# Altium footprint library PcbLib1.PcbLib: 18 footprints (part 1 of 2)
Each footprint in its own frame and in the unit in brackets; x right, y up, seen from the top. Pads: shape width x height; smd on the part's side, far side on the other; paste and mask are expansions set on the pad; w line width, h text height; cw(c..) or ccw(c..) is an arc to the next point about the centre after c.
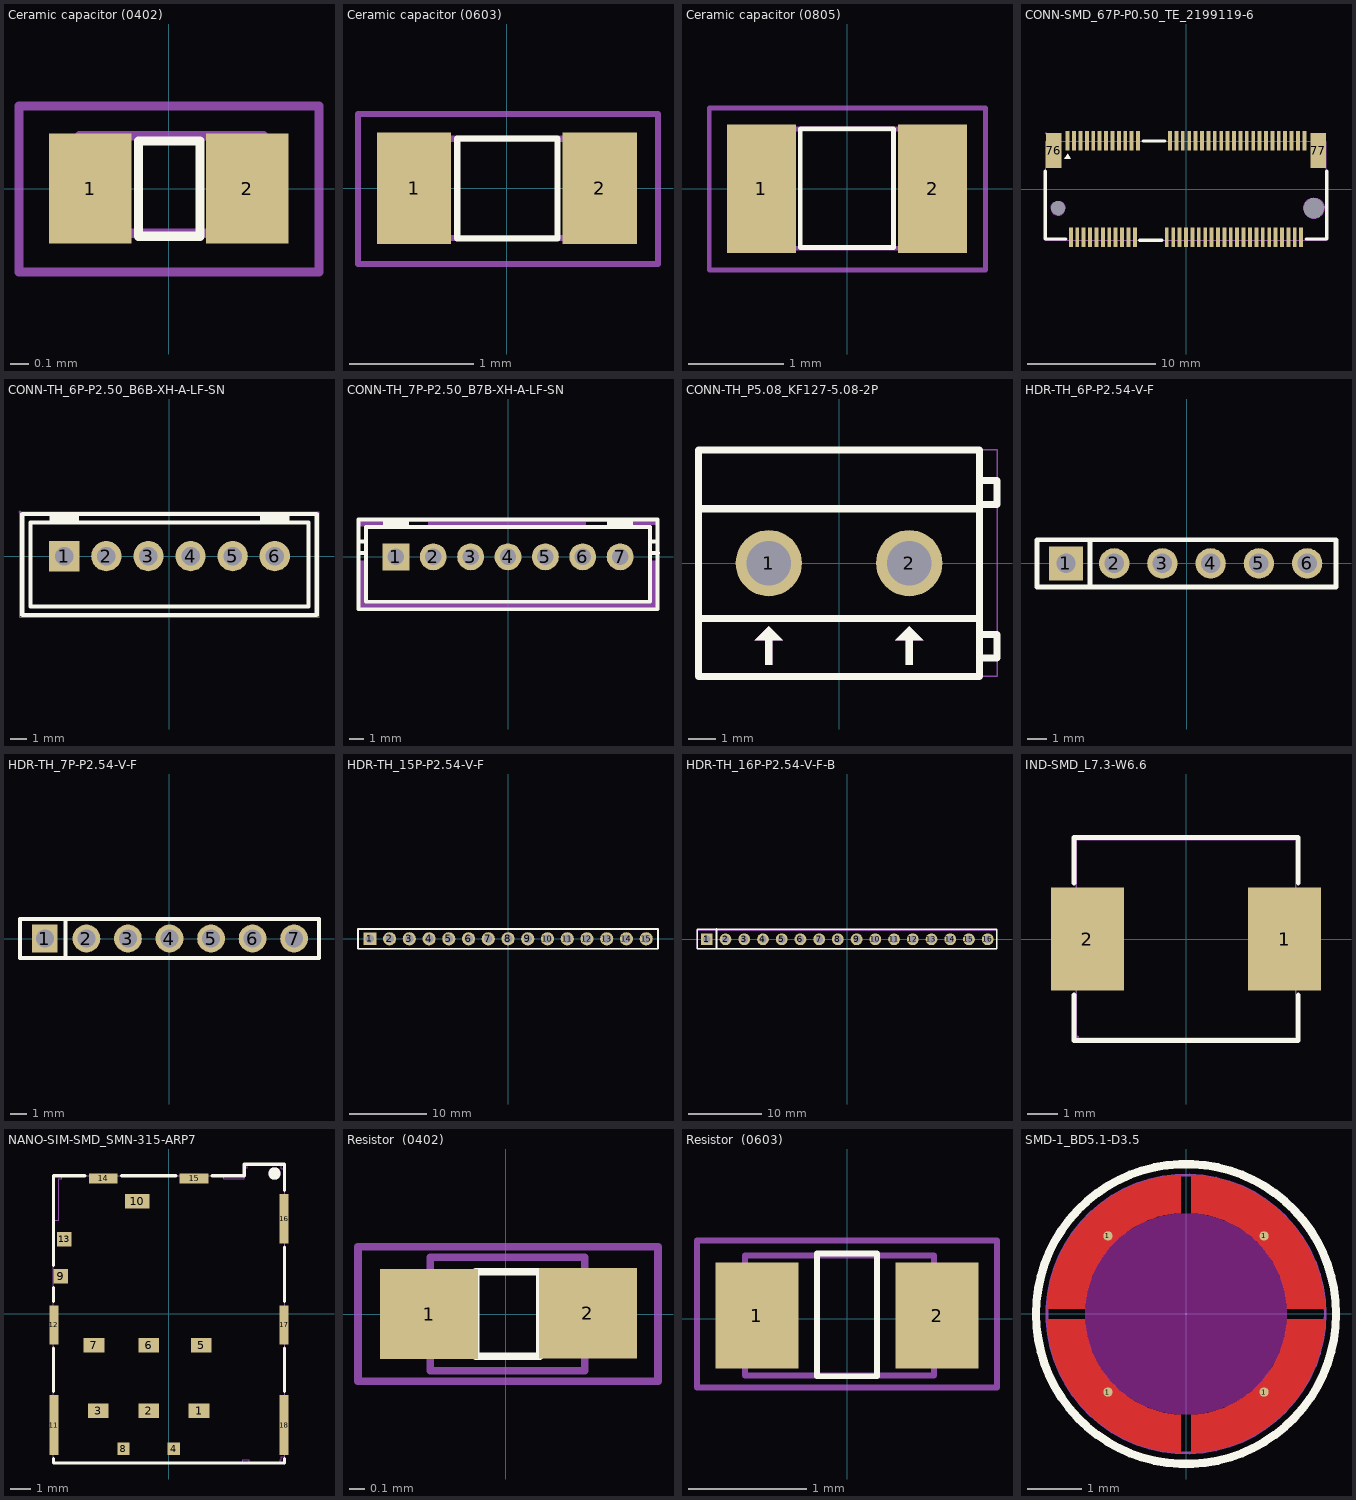
[diagram p0: the footprints below, top view; thin cyan lines are the x and y axes]

## Ceramic capacitor (0402) [mm]
height 9.45
pads (2):
  rect 0.45x0.6 smd: 1(-0.43,0) 2(0.43,0)
Top Overlay:
  lines w0.05: -0.165,-0.261 0.171,-0.261 0.171,0.261 -0.165,0.261 -0.165,-0.261
Mechanical 13:
  lines w0.05: -0.488,-0.245 -0.488,0.289 0.518,0.289 0.518,-0.245 -0.488,-0.245
Mechanical 15:
  lines w0.05: -0.819,-0.457 0.822,-0.457 0.822,0.452 -0.819,0.452 -0.819,-0.457
3D body "csmd-0402_l1_w0-5_h0-56.stp": height 0.56, standoff 0, extent -0.498,-0.247 0.502,0.253

## Ceramic capacitor (0603) [mm]
pads (2):
  rect 0.6x0.9 smd: 1(-0.75,0) 2(0.75,0)
Top Overlay:
  lines w0.05: -0.401,-0.403 0.408,-0.403 0.408,0.402 -0.401,0.402 -0.401,-0.403
Mechanical 13:
  lines w0.05: -0.8,-0.4 0.8,-0.4 0.8,0.4 -0.8,0.4 -0.8,-0.4
Mechanical 15:
  lines w0.05: -1.202,-0.609 -1.202,0.599 1.219,0.599 1.219,-0.609 -1.202,-0.609
3D body "csmd-0603_l1-6_w0-8_h0-8.stp": height 0.8, standoff 0, extent -0.8,-0.402 0.8,0.398

## Ceramic capacitor (0805) [mm]
pads (2):
  rect 0.725x1.35 smd: 1(-0.9,0) 2(0.9,0)
Top Overlay:
  lines w0.05: -0.49,-0.619 0.487,-0.619 0.487,0.629 -0.49,0.629 -0.49,-0.619
Mechanical 13:
  lines w0.05: -1,-0.625 1,-0.625 1,0.625 -1,0.625 -1,-0.625
Mechanical 15:
  lines w0.05: -1.445,-0.855 1.454,-0.855 1.454,0.848 -1.445,0.848 -1.445,-0.855
3D body "csmd-0805_l2_w1-25_h0-85.stp": height 0.85, standoff 0, extent -0.997,-0.619 1.003,0.631

## CONN-SMD_67P-P0.50_TE_2199119-6 [mil]
pads (71):
  rect 11.8x61 smd paste+0 mask+2: 1(-364.2,148.7) 2(-354.4,-148.6) 3(-344.5,148.7) 4(-334.7,-148.6) 5(-324.8,148.7) 6(-315,-148.6) 7(-305.2,148.7) 8(-295.3,-148.6) 9(-285.5,148.7) 10(-275.6,-148.6) 11(-265.8,148.7) 12(-255.9,-148.6) 13(-246.1,148.7) 14(-236.3,-148.6) 15(-226.4,148.7) 16(-216.6,-148.6) 17(-206.7,148.7) 18(-196.9,-148.6) 19(-187,148.7) 20(-177.2,-148.6) 21(-167.4,148.7) 22(-157.5,-148.6) 23(-147.7,148.7) 32(-59.1,-148.6) 33(-49.3,148.7) 34(-39.4,-148.6) 35(-29.6,148.7) 36(-19.7,-148.6) 37(-9.9,148.7) 38(0,-148.6) 39(9.8,148.7) 40(19.6,-148.6) 41(29.5,148.7) 42(39.3,-148.6) 43(49.2,148.7) 44(59,-148.6) 45(68.9,148.7) 46(78.7,-148.6) 47(88.5,148.7) 48(98.4,-148.6) 49(108.2,148.7) 50(118.1,-148.6) 51(127.9,148.7) 52(137.8,-148.6) 53(147.6,148.7) 54(157.4,-148.6) 55(167.3,148.7) 56(177.1,-148.6) 57(187,148.7) 58(196.8,-148.6) 59(206.7,148.7) 60(216.5,-148.6) 61(226.3,148.7) 62(236.2,-148.6) 63(246,148.7) 64(255.9,-148.6) 65(265.7,148.7) 66(275.6,-148.6) 67(285.4,148.7) 68(295.2,-148.6) 69(305.1,148.7) 70(314.9,-148.6) 71(324.8,148.7) 72(334.6,-148.6) 73(344.4,148.7) 74(354.3,-148.6) 75(364.1,148.7)
  rect 47.2x108.3 smd paste+0 mask+2: 76(-407.5,118.1) 77(407.4,118.1)
  round 19.68 hole 43.31: ""(-393.7,-59.06)
  round 39.37 hole 62.99: ""(393.7,-59.06)
Top Overlay:
  region: -364.2,108.3 -374.2,93.3 -354.2,93.3
  lines w10: -433.1,55.1 -433.1,-153.5 -369.4,-153.5 ; -142.5,-157.4 -74.1,-157.4 ; -132.7,147.7 -64.3,147.7 ; 369.3,-153.5 433,-153.5 433,55.1
Keep-Out Layer:
  board cut-out: 425.2,-59 424.8,-64 423.6,-68.8 421.7,-73.3 419.1,-77.5 415.9,-81.3 412.2,-84.5 408,-87.1 403.4,-89 398.6,-90.1 393.7,-90.5 388.7,-90.1 383.9,-89 379.4,-87.1 375.1,-84.5 371.4,-81.3 368.2,-77.5 365.6,-73.3 363.7,-68.8 362.6,-64 362.2,-59 362.6,-54.1 363.7,-49.3 365.6,-44.7 368.2,-40.5 371.4,-36.8 375.1,-33.5 379.4,-31 383.9,-29.1 388.7,-27.9 393.7,-27.5 398.6,-27.9 403.4,-29.1 408,-31 412.2,-33.5 415.9,-36.8 419.1,-40.5 421.7,-44.7 423.6,-49.3 424.8,-54.1
  board cut-out: -372.1,-59 -372.5,-63.1 -373.6,-67.1 -375.5,-70.7 -378.1,-74 -381.2,-76.7 -384.7,-78.7 -388.6,-80.1 -392.7,-80.7 -396.8,-80.5 -400.8,-79.5 -404.6,-77.8 -407.9,-75.4 -410.8,-72.4 -413,-69 -414.5,-65.1 -415.3,-61.1 -415.3,-57 -414.5,-52.9 -413,-49.1 -410.8,-45.6 -407.9,-42.7 -404.6,-40.3 -400.8,-38.6 -396.8,-37.6 -392.7,-37.4 -388.6,-38 -384.7,-39.3 -381.2,-41.4 -378.1,-44.1 -375.5,-47.3 -373.6,-51 -372.5,-54.9
Mechanical 1:
  lines w0.1: -415.3,-61.1 -414.5,-65.1 -413,-69 -410.8,-72.4 -407.9,-75.4 -404.6,-77.8 -400.8,-79.5 -396.8,-80.5 -392.7,-80.7 -388.6,-80.1 -384.7,-78.7 -381.2,-76.7 -378.1,-74 -375.5,-70.7 -373.6,-67.1 -372.5,-63.1 -372.1,-59 -372.5,-54.9 -373.6,-51 -375.5,-47.3 -378.1,-44.1 -381.2,-41.4 -384.7,-39.3 -388.6,-38 -392.7,-37.4 -396.8,-37.6 -400.8,-38.6 -404.6,-40.3 -407.9,-42.7 -410.8,-45.6 -413,-49.1 -414.5,-52.9 -415.3,-57 -415.3,-61.1 ; 362.2,-59 362.6,-64 363.7,-68.8 365.6,-73.3 368.2,-77.5 371.4,-81.3 375.1,-84.5 379.4,-87.1 383.9,-89 388.7,-90.1 393.7,-90.5 398.6,-90.1 403.4,-89 408,-87.1 412.2,-84.5 415.9,-81.3 419.1,-77.5 421.7,-73.3 423.6,-68.8 424.8,-64 425.2,-59 424.8,-54.1 423.6,-49.3 421.7,-44.7 419.1,-40.5 415.9,-36.8 412.2,-33.5 408,-31 403.4,-29.1 398.6,-27.9 393.7,-27.5 388.7,-27.9 383.9,-29.1 379.4,-31 375.1,-33.5 371.4,-36.8 368.2,-40.5 365.6,-44.7 363.7,-49.3 362.6,-54.1 362.2,-59
Mechanical 7:
  lines w2: -431.1,-157.4 -431.1,147.7 431.1,147.7 431.1,-157.4 -431.1,-157.4
Mechanical 9:
  region: -428.8,171.3 -429.2,170 -430.2,169.1 -431.5,169 -432.7,169.5 -433.4,170.6 -433.4,172 -432.7,173.1 -431.5,173.6 -430.2,173.4 -429.2,172.6
Mechanical 10:
  drawing of 69 lines, arcs and shapes, not listed
3D body "3D_PCB1_2026-06-08 (5).step": height 120.91, standoff -21.65, extent -431.1,-170.87 431.1,171.65

## CONN-TH_6P-P2.50_B6B-XH-A-LF-SN [mil]
pads (6):
  rect 70.9x70.9 hole 43.3: 1(-246.1,0)
  round 70.9 hole 43.3: 2(-147.6,0) 3(-49.2,0) 4(49.3,0) 5(147.7,0) 6(246.1,0)
Top Overlay:
  lines w10: -275.6,78.7 -275.6,98.4 ; -275.6,88.6 -216.5,88.6 ; -216.5,78.7 -216.5,98.4 ; 216.6,78.7 216.6,98.4 ; 216.6,88.6 275.6,88.6 ; 275.6,78.7 275.6,98.4 ; -344.5,-137.8 -344.5,98.4 344.5,98.4 344.5,-137.8 -344.5,-137.8 ; -324.8,-118.1 -324.8,78.7 324.8,78.7 324.8,-118.1 -324.8,-118.1
Mechanical 7:
  lines w2: -349.5,-142.8 -349.5,103.4 349.5,103.4 349.5,-142.8 -349.5,-142.8
Mechanical 9:
  region: -347.1,103.4 -347.5,102.1 -348.5,101.3 -349.8,101.1 -351,101.6 -351.8,102.8 -351.8,104.1 -351,105.2 -349.8,105.8 -348.5,105.6 -347.5,104.7
Mechanical 10:
  drawing of 6 lines, arcs and shapes, not listed
3D body "3D_PCB1_2026-06-12 (1).step": height 276.38, standoff -117.32, extent -344.51,-131.89 344.51,92.52

## CONN-TH_7P-P2.50_B7B-XH-A-LF-SN [mil]
pads (7):
  rect 70.9x70.9 hole 43.3: 1(-295.3,0)
  round 70.9 hole 43.3: 2(-196.9,0) 3(-98.4,0) 4(0,0) 5(98.4,0) 6(196.8,0) 7(295.3,0)
Top Overlay:
  lines w10: -390,10 -375,10 ; -390,40 -380,40 ; -324.8,78.7 -324.8,98.4 ; -324.8,88.6 -265.7,88.6 ; -265.7,78.7 -265.7,98.4 ; 265.7,78.7 265.7,98.4 ; 265.7,88.6 324.8,88.6 ; 324.8,78.7 324.8,98.4 ; 375,10 395,10 ; 375,40 390,40 ; -393.7,-137.8 393.7,-137.8 393.7,98.4 -393.7,98.4 -393.7,-137.8 ; -374,-118.1 374,-118.1 374,78.7 -374,78.7 -374,-118.1
Mechanical 4:
  region: -395,-10 -375,-10 -375,-115 375,-115 375,-10 395,-10 395,-135 -395,-135 -395,-75
  region: -395,100 -330,100 -330,80 -395,80
  region: -210,100 205,100 205,80 -210,80
  region: 335,100 395,100 395,85 330,85 330,100
Mechanical 7:
  lines w2: -391.7,-133.2 -391.7,93.2 391.7,93.2 391.7,-133.2 -391.7,-133.2
Mechanical 9:
  region: -389.4,-133.2 -389.7,-134.5 -390.8,-135.3 -392.1,-135.5 -393.3,-135 -394,-133.9 -394,-132.5 -393.3,-131.4 -392.1,-130.9 -390.8,-131.1 -389.7,-131.9
Mechanical 10:
  region: 307.9,-12.6 282.7,-12.6 282.7,12.6 307.9,12.6
  region: 209.4,-12.6 184.2,-12.6 184.2,12.6 209.4,12.6
  region: 111,-12.6 85.8,-12.6 85.8,12.6 111,12.6
  region: 12.6,-12.6 -12.6,-12.6 -12.6,12.6 12.6,12.6
  region: -85.8,-12.6 -111,-12.6 -111,12.6 -85.8,12.6
  region: -184.3,-12.6 -209.5,-12.6 -209.5,12.6 -184.3,12.6
  region: -282.7,-12.6 -307.9,-12.6 -307.9,12.6 -282.7,12.6
3D body "3D_PCB1_2026-06-12.step": height 276.38, standoff -117.32, extent -392.93,-131.1 394.51,93.31

## CONN-TH_P5.08_KF127-5.08-2P [mil]
pads (2):
  round 94.5 hole 63: 1(-100,0) 2(100,0)
Top Overlay:
  region: 100,-90 80,-110 95,-110 95,-145 105,-145 105,-110 120,-110
  region: -100,-90 -120,-110 -105,-110 -105,-145 -95,-145 -95,-110 -80,-110
  lines w10: -200,-78.5 200,-78.5 ; -200,77.5 200,77.5 ; 200,-135 225,-135 225,-101.3 200,-101.3 ; 200,83.7 225,83.7 225,117.4 200,117.4 ; -200,-161.4 200,-161.4 200,161.4 -200,161.4 -200,-161.4
Mechanical 4:
  region: 100,-90 80,-110 95,-110 95,-145 105,-145 105,-110 120,-110
  region: -100,-90 -120,-110 -105,-110 -105,-145 -95,-145 -95,-110 -80,-110
Mechanical 7:
  lines w2: -200,-161.4 -200,161.4 225,161.4 225,-161.4 -200,-161.4
Mechanical 9:
  region: -197.7,-161.4 -198.1,-162.7 -199.1,-163.6 -200.4,-163.8 -201.6,-163.2 -202.3,-162.1 -202.3,-160.8 -201.6,-159.7 -200.4,-159.1 -199.1,-159.3 -198.1,-160.2
Mechanical 10:
  region: 127.5,0 127.1,-4.7 125.9,-9.2 124,-13.5 121.4,-17.3 118.2,-20.7 114.4,-23.5 110.2,-25.6 105.8,-27 101.1,-27.6 96.5,-27.4 91.9,-26.4 87.6,-24.6 83.6,-22.2 80.1,-19.1 77.1,-15.5 74.8,-11.4 73.3,-7 72.5,-2.4 72.5,2.3 73.3,6.9 74.8,11.3 77.1,15.4 80.1,19 83.6,22.1 87.6,24.6 91.9,26.3 96.5,27.3 101.1,27.5 105.8,26.9 110.2,25.6 114.4,23.4 118.2,20.7 121.4,17.3 124,13.4 125.9,9.2 127.1,4.6
  region: -72.5,0 -72.9,-4.7 -74.1,-9.2 -76,-13.5 -78.6,-17.3 -81.8,-20.7 -85.6,-23.5 -89.8,-25.6 -94.2,-27 -98.9,-27.6 -103.5,-27.4 -108.1,-26.4 -112.4,-24.6 -116.4,-22.2 -119.9,-19.1 -122.9,-15.5 -125.2,-11.4 -126.7,-7 -127.5,-2.4 -127.5,2.3 -126.7,6.9 -125.2,11.3 -122.9,15.4 -119.9,19 -116.4,22.1 -112.4,24.6 -108.1,26.3 -103.5,27.3 -98.9,27.5 -94.2,26.9 -89.8,25.6 -85.6,23.4 -81.8,20.7 -78.6,17.3 -76,13.4 -74.1,9.2 -72.9,4.6
3D body "3D_PCB1_2026-06-08 (4).step": height 397.64, standoff -137.79, extent -200.2,-161.42 222.24,161.42

## HDR-TH_6P-P2.54-V-F [mil]
pads (6):
  rect 70.9x70.9 hole 40.2: 1(-250,0)
  round 63 hole 40.2: 2(-150,0) 3(-50,0) 4(50,0) 5(150,0) 6(250,0)
Top Overlay:
  lines w10: -200,-49.2 -200,49.2 ; -309.8,-49.2 -309.8,49.2 309.8,49.2 309.8,-49.2 -309.8,-49.2
Mechanical 7:
  lines w2: -309.8,-49.2 309.8,-49.2 309.8,49.2 -309.8,49.2 -309.8,-49.2
Mechanical 9:
  region: -307.5,-49.2 -307.9,-50.5 -308.9,-51.4 -310.2,-51.6 -311.4,-51 -312.1,-49.9 -312.1,-48.6 -311.4,-47.5 -310.2,-46.9 -308.9,-47.1 -307.9,-48
Mechanical 10:
  region: 237.4,5.9 262.6,5.9 262.6,-5.9 237.4,-5.9
  region: 137.4,5.9 162.6,5.9 162.6,-5.9 137.4,-5.9
  region: 37.4,5.9 62.6,5.9 62.6,-5.9 37.4,-5.9
  region: -62.6,5.9 -37.4,5.9 -37.4,-5.9 -62.6,-5.9
  region: -162.6,5.9 -137.4,5.9 -137.4,-5.9 -162.6,-5.9
  region: -262.6,5.9 -237.4,5.9 -237.4,-5.9 -262.6,-5.9
3D body "3D_PCB1_2026-06-08 (2).step": height 334.65, standoff -125.98, extent -310.04,-47.64 310.04,46.85

## HDR-TH_7P-P2.54-V-F [mil]
pads (7):
  rect 62x66.9 hole 43.3: 1(-300,0)
  round 66.9 hole 43.3: 2(-200,0) 3(-100,0) 4(0,0) 5(100,0) 6(200,0) 7(300,0)
Top Overlay:
  lines w10: -250,-45 -250,45 ; -359.4,-47.3 -359.4,47.2 359.5,47.2 359.5,-47.3 -359.4,-47.3
Mechanical 7:
  lines w2: -359.8,-49.2 359.8,-49.2 359.8,49.2 -359.8,49.2 -359.8,-49.2
Mechanical 9:
  region: -357.5,-49.2 -357.9,-50.5 -358.9,-51.4 -360.2,-51.6 -361.4,-51 -362.1,-49.9 -362.1,-48.6 -361.4,-47.5 -360.2,-46.9 -358.9,-47.1 -357.9,-48
Mechanical 10:
  region: 287.4,7.8 312.6,7.8 312.6,-7.9 287.4,-7.9
  region: 187.4,7.8 212.6,7.8 212.6,-7.9 187.4,-7.9
  region: 87.4,7.8 112.6,7.8 112.6,-7.9 87.4,-7.9
  region: -12.6,7.8 12.6,7.8 12.6,-7.9 -12.6,-7.9
  region: -112.6,7.8 -87.4,7.8 -87.4,-7.9 -112.6,-7.9
  region: -212.6,7.8 -187.4,7.8 -187.4,-7.9 -212.6,-7.9
  region: -312.6,-7.9 -312.6,7.8 -287.4,7.8 -287.4,-7.9
3D body "3D_PCB1_2026-06-08 (3).step": height 336.22, standoff -124.41, extent -358.07,-47.24 358.07,47.24

## HDR-TH_15P-P2.54-V-F [mil]
pads (15):
  rect 66.9x62 hole 43.3: 1(-700,0)
  round 66.9 hole 43.3: 2(-600,0) 3(-500,0) 4(-400,0) 5(-300,0) 6(-200,0) 7(-100,0) 8(0,0) 9(100,0) 10(200,0) 11(300,0) 12(400,0) 13(500,0) 14(600,0) 15(700,0)
Top Overlay:
  lines w8: -760,-50 760,-50 760,50 750,50 -675,50 -760,50 -760,-50
Mechanical 7:
  lines w2: -757.8,-49.2 757.9,-49.2 757.9,49.2 -757.8,49.2 -757.8,-49.2
Mechanical 9:
  region: -755.5,-49.2 -755.9,-50.5 -756.9,-51.4 -758.2,-51.6 -759.4,-51 -760.1,-49.9 -760.1,-48.6 -759.4,-47.5 -758.2,-46.9 -756.9,-47.1 -755.9,-48
Mechanical 10:
  region: 687.4,7.8 712.6,7.8 712.6,-7.9 687.4,-7.9
  region: 587.4,7.8 612.6,7.8 612.6,-7.9 587.4,-7.9
  region: 487.4,7.8 512.6,7.8 512.6,-7.9 487.4,-7.9
  region: 387.4,7.8 412.6,7.8 412.6,-7.9 387.4,-7.9
  region: 287.4,7.8 312.6,7.8 312.6,-7.9 287.4,-7.9
  region: 187.4,7.8 212.6,7.8 212.6,-7.9 187.4,-7.9
  region: 87.4,7.8 112.6,7.8 112.6,-7.9 87.4,-7.9
  region: -12.6,7.8 12.6,7.8 12.6,-7.9 -12.6,-7.9
  region: -112.6,7.8 -87.4,7.8 -87.4,-7.9 -112.6,-7.9
  region: -212.6,7.8 -187.4,7.8 -187.4,-7.9 -212.6,-7.9
  region: -312.6,7.8 -287.4,7.8 -287.4,-7.9 -312.6,-7.9
  region: -412.6,7.8 -387.4,7.8 -387.4,-7.9 -412.6,-7.9
  region: -512.6,7.8 -487.4,7.8 -487.4,-7.9 -512.6,-7.9
  region: -612.6,7.8 -587.4,7.8 -587.4,-7.9 -612.6,-7.9
  region: -712.6,7.8 -687.4,7.8 -687.4,-7.9 -712.6,-7.9
3D body "3D_PCB1_2026-06-08 (1).step": height 334.65, standoff -125.98, extent -758.27,-49.21 757.48,49.61

## HDR-TH_16P-P2.54-V-F-B [mil]
pads (16):
  rect 63x63 hole 39.4: 1(-750,0)
  round 63 hole 39.4: 2(-650,0) 3(-550,0) 4(-450,0) 5(-350,0) 6(-250,0) 7(-150,0) 8(-50,0) 9(50,0) 10(150,0) 11(250,0) 12(350,0) 13(450,0) 14(550,0) 15(650,0) 16(750,0)
Top Overlay:
  lines w8: -800,-50 800,-50 800,55 -800,55 -800,-50
  lines w10: -698.5,-45 -698.5,55
Mechanical 7:
  lines w2: -800,-49.2 -800,49.2 800,49.2 800,-49.2 -800,-49.2
Mechanical 9:
  region: -797.7,-49.2 -798.1,-50.5 -799.1,-51.4 -800.4,-51.6 -801.6,-51 -802.3,-49.9 -802.3,-48.6 -801.6,-47.5 -800.4,-46.9 -799.1,-47.1 -798.1,-48
Mechanical 10:
  region: 737.4,7.8 762.6,7.8 762.6,-7.9 737.4,-7.9
  region: 637.4,7.8 662.6,7.8 662.6,-7.9 637.4,-7.9
  region: 537.4,7.8 562.6,7.8 562.6,-7.9 537.4,-7.9
  region: 437.4,7.8 462.6,7.8 462.6,-7.9 437.4,-7.9
  region: 337.4,7.8 362.6,7.8 362.6,-7.9 337.4,-7.9
  region: 237.4,7.8 262.6,7.8 262.6,-7.9 237.4,-7.9
  region: 137.4,7.8 162.6,7.8 162.6,-7.9 137.4,-7.9
  region: 37.4,7.8 62.6,7.8 62.6,-7.9 37.4,-7.9
  region: -62.6,7.8 -37.4,7.8 -37.4,-7.9 -62.6,-7.9
  region: -162.6,7.8 -137.4,7.8 -137.4,-7.9 -162.6,-7.9
  region: -262.6,7.8 -237.4,7.8 -237.4,-7.9 -262.6,-7.9
  region: -362.6,7.8 -337.4,7.8 -337.4,-7.9 -362.6,-7.9
  region: -462.6,7.8 -437.4,7.8 -437.4,-7.9 -462.6,-7.9
  region: -562.6,7.8 -537.4,7.8 -537.4,-7.9 -562.6,-7.9
  region: -662.6,7.8 -637.4,7.8 -637.4,-7.9 -662.6,-7.9
  region: -762.6,7.8 -737.4,7.8 -737.4,-7.9 -762.6,-7.9
3D body "3D_PCB1_2026-06-08.step": height 336.22, standoff -124.41, extent -807.87,-46.77 807.87,52.05

## IND-SMD_L7.3-W6.6 [mil]
pads (2):
  rect 95.4x134.6 smd: 1(129,0) 2(-129.1,0)
Top Overlay:
  lines w6: -146.7,-73.3 -146.7,-132.9 146.7,-132.9 146.7,-73.3 ; -146.7,73.3 -146.7,132.9 146.7,132.9 146.7,73.3
Mechanical 7:
  lines w2: -143.7,-129.9 143.7,-129.9 143.7,129.9 -143.7,129.9 -143.7,-129.9
Mechanical 9:
  region: -140.2,-128.7 -140.6,-130 -141.6,-130.9 -142.9,-131.1 -144.1,-130.5 -144.8,-129.4 -144.8,-128.1 -144.1,-126.9 -142.9,-126.4 -141.6,-126.6 -140.6,-127.4
Mechanical 10:
  region: 143.7,-59 143.7,59.1 84.6,59.1 84.6,-59
  region: -143.7,-59 -143.7,59.1 -84.7,59.1 -84.7,-59
3D body "3D_PCB1_2026-06-08 (3).step": height 114.17, standoff -5.51, extent -139.76,-130.31 139.76,129.53

## NANO-SIM-SMD_SMN-315-ARP7 [mil]
pads (18):
  rect 39.4x27.6 smd: 1(57.3,-185) 2(-38.7,-185) 3(-134.8,-185) 5(61.3,-60.2) 6(-38.7,-60.2) 7(-143.1,-60.2)
  rect 23.6x23.6 smd: 4(9.3,-257.9) 8(-86.8,-257.9)
  rect 27.6x27.6 smd: 9(-206.8,70.9) 13(-199.8,141.7)
  rect 47.2x27.6 smd: 10(-60.4,214.6)
  rect 17.7x114.2 smd: 11(-219.4,-212.6) 18(219.5,-212.6)
  rect 17.7x74.8 smd: 12(-219.4,-21.6) 17(219.5,-21.6)
  rect 55.1x19.7 smd: 14(-125.4,257.9) 15(47.9,257.9)
  rect 17.7x94.5 smd: 16(219.5,181.1)
Top Overlay:
  lines w6: -220.4,-276.8 -220.4,-284.6 220.5,-284.6 220.5,-276.8 ; -220.4,-148.4 -220.4,-66.1 ; -220.4,22.9 -220.4,50 ; -220.4,91.8 -220.4,263 -160,263 ; -90.7,263 13.2,263 ; 82.5,263 143.7,263 143.7,285.1 220.5,285.1 220.5,235.5 ; 220.5,-148.4 220.5,-66.1 ; 220.5,22.9 220.5,126.8
  lines w11.8: 195.3,267.3 195.7,269.4 196.7,271.1 198.3,272.4 200.2,273.1 202.3,273.1 204.2,272.4 205.8,271.1 206.8,269.4 207.1,267.3 206.8,265.3 205.8,263.5 204.2,262.2 202.3,261.5 200.2,261.5 198.3,262.2 196.7,263.5 195.7,265.3 195.3,267.3
Mechanical 4:
  lines w11.8: 195.3,267.3 195.7,269.4 196.7,271.1 198.3,272.4 200.2,273.1 202.3,273.1 204.2,272.4 205.8,271.1 206.8,269.4 207.1,267.3 206.8,265.3 205.8,263.5 204.2,262.2 202.3,261.5 200.2,261.5 198.3,262.2 196.7,263.5 195.7,265.3 195.3,267.3
Mechanical 7:
  lines w2: -220.4,-284.4 -220.4,178.2 -210.6,178.2 -210.6,256.9 -204.7,256.9 -204.7,262.8 104.4,262.8 104.4,256.9 143.7,256.9 143.7,278.6 149.7,278.6 149.7,284.5 214.6,284.5 214.6,276.6 220.5,276.6 220.5,-272.6 214.6,-272.6 214.6,-278.5 212.6,-278.5 212.6,-284.4 153.6,-284.4 153.6,-278.5 140.6,-278.5 140.6,-284.4 -220.4,-284.4
Mechanical 9:
  region: 222.9,-284.4 222.5,-285.7 221.5,-286.6 220.2,-286.8 219,-286.2 218.3,-285.1 218.3,-283.8 219,-282.7 220.2,-282.1 221.5,-282.3 222.5,-283.2
Mechanical 10:
  region: -79.3,225.6 -41.5,225.6 -41.5,203.6 -79.3,203.6
  region: -217.9,81.9 -195.8,81.9 -195.8,59.9 -217.9,59.9
  region: -210.8,152.8 -188.7,152.8 -188.7,130.7 -210.8,130.7
  region: 41.6,-174 73.1,-174 73.1,-196 41.6,-196
  region: -54.5,-174 -23,-174 -23,-196 -54.5,-196
  region: -150.5,-174 -119.1,-174 -119.1,-196 -150.5,-196
  region: -0.2,-248.4 18.7,-248.4 18.7,-267.3 -0.2,-267.3
  region: 45.5,-49.2 77,-49.2 77,-71.2 45.5,-71.2
  region: -54.5,-49.2 -23,-49.2 -23,-71.2 -54.5,-71.2
  region: -158.8,-49.2 -127.3,-49.2 -127.3,-71.2 -158.8,-71.2
  region: -96.2,-248.4 -77.3,-248.4 -77.3,-267.3 -96.2,-267.3
  region: -145,262.8 -105.7,262.8 -105.7,254.9 -145,254.9
  region: 28.2,262.8 67.6,262.8 67.6,254.9 28.2,254.9
  region: -220.4,-163.4 -212.5,-163.4 -212.5,-261.8 -220.4,-261.8
  region: -220.4,7.9 -212.5,7.9 -212.5,-51.2 -220.4,-51.2
  region: 212.6,220.5 220.5,220.5 220.5,141.7 212.6,141.7
  region: 212.6,7.9 220.5,7.9 220.5,-51.2 212.6,-51.2
  region: 212.6,-163.4 220.5,-163.4 220.5,-261.8 212.6,-261.8
3D body "3D_PCB1_2026-06-08.step": height 51.22, standoff -5.51, extent -220.08,-284.52 220.87,284.52

## Resistor  (0402) [mm]
pads (2):
  rect 0.65x0.6 smd: 1(-0.508,0) 2(0.544,0.006)
Top Overlay:
  lines w0.05: -0.2,-0.28 -0.2,0.28 0.225,0.28 0.225,-0.28 -0.2,-0.28
Mechanical 13:
  lines w0.05: -0.5,-0.375 -0.5,0.375 0.525,0.375 0.525,-0.375 -0.5,-0.375
Mechanical 15:
  lines w0.05: -0.98,-0.445 -0.98,0.445 1.01,0.445 1.01,-0.445 -0.98,-0.445
3D body "Resistor 0402.step": height 0.36, standoff 0.01, extent -0.735,-0.255 0.765,0.245

## Resistor  (0603) [mm]
pads (2):
  rect 0.7x0.9 smd: 1(-0.762,0.025) 2(0.762,0.025)
Top Overlay:
  lines w0.05: -0.254,-0.489 -0.254,0.551 -0.127,0.551 0.127,0.551 0.254,0.551 0.254,0.291 0.254,-0.229 0.254,-0.489 -0.254,-0.489
Mechanical 13:
  lines w0.05: -0.864,-0.483 0.737,-0.483 0.737,0.534 -0.864,0.534 -0.864,-0.483
Mechanical 15:
  lines w0.05: -1.27,-0.584 1.27,-0.584 1.27,0.66 0.635,0.66 0.318,0.66 -0.318,0.66 -0.635,0.66 -1.27,0.66 -1.27,-0.584
3D body "Resistor 0603.step": height 0.5, standoff 0, extent -1.05,-0.375 1.05,0.425

## SMD-1_BD5.1-D3.5 [mm]
pads (4):
  round 0.17 smd: 1(-1.433,-1.433) 1(-1.433,1.43) 1(1.43,-1.433) 1(1.43,1.43)
Top Layer:
  region: 0.099,-2.55 0.099,-1.852 0.16,-1.847 0.221,-1.841 0.282,-1.831 0.343,-1.821 0.404,-1.808 0.465,-1.796 0.523,-1.778 0.582,-1.76 0.64,-1.74 0.699,-1.717 0.754,-1.694 0.81,-1.666 0.866,-1.638 0.919,-1.61 0.973,-1.577 1.024,-1.544 1.074,-1.511 1.125,-1.473 1.173,-1.435 1.219,-1.397 1.265,-1.354 1.311,-1.311 1.354,-1.267 1.394,-1.222 1.433,-1.173 1.473,-1.125 1.509,-1.077 1.544,-1.026 1.577,-0.973 1.608,-0.922 1.638,-0.866 1.666,-0.813 1.692,-0.757 1.714,-0.699 1.737,-0.643 1.758,-0.584 1.775,-0.526 1.793,-0.465 1.808,-0.406 1.819,-0.345 1.831,-0.284 1.839,-0.224 1.844,-0.163 1.849,-0.102 2.55,-0.102 2.545,-0.175 2.54,-0.246 2.532,-0.32 2.522,-0.391 2.51,-0.465 2.494,-0.536 2.479,-0.607 2.459,-0.678 2.438,-0.749 2.418,-0.818 2.393,-0.889 2.365,-0.955 2.337,-1.024 2.306,-1.09 2.276,-1.156 2.24,-1.222 2.205,-1.285 2.167,-1.349 2.129,-1.41 2.088,-1.471 2.045,-1.529 1.999,-1.587 1.953,-1.643 1.905,-1.699 1.854,-1.753 1.803,-1.806 1.753,-1.857 1.697,-1.908 1.643,-1.953 1.585,-2.002 1.527,-2.045 1.468,-2.088 1.407,-2.129 1.346,-2.169 1.283,-2.207 1.219,-2.243 1.156,-2.276 1.09,-2.309 1.021,-2.339 0.955,-2.367 0.886,-2.395 0.818,-2.418 0.747,-2.441 0.678,-2.461 0.607,-2.479 0.533,-2.497 0.462,-2.51 0.391,-2.522 0.318,-2.532 0.246,-2.54 0.173,-2.548
  region: -2.55,-0.102 -1.852,-0.102 -1.847,-0.163 -1.841,-0.224 -1.831,-0.284 -1.821,-0.345 -1.808,-0.406 -1.796,-0.465 -1.778,-0.526 -1.76,-0.584 -1.74,-0.643 -1.717,-0.699 -1.694,-0.757 -1.666,-0.813 -1.638,-0.866 -1.61,-0.922 -1.577,-0.973 -1.544,-1.026 -1.511,-1.077 -1.473,-1.125 -1.435,-1.173 -1.397,-1.222 -1.354,-1.267 -1.311,-1.311 -1.267,-1.354 -1.222,-1.394 -1.173,-1.435 -1.125,-1.473 -1.077,-1.511 -1.026,-1.544 -0.973,-1.577 -0.922,-1.61 -0.866,-1.638 -0.813,-1.666 -0.757,-1.694 -0.699,-1.717 -0.643,-1.74 -0.584,-1.76 -0.526,-1.778 -0.465,-1.796 -0.406,-1.808 -0.345,-1.821 -0.284,-1.831 -0.224,-1.839 -0.163,-1.847 -0.102,-1.852 -0.102,-2.55 -0.175,-2.548 -0.246,-2.54 -0.32,-2.532 -0.391,-2.522 -0.465,-2.51 -0.536,-2.497 -0.607,-2.479 -0.678,-2.461 -0.749,-2.441 -0.818,-2.418 -0.889,-2.395 -0.955,-2.367 -1.024,-2.339 -1.09,-2.309 -1.156,-2.276 -1.222,-2.243 -1.285,-2.207 -1.349,-2.169 -1.41,-2.129 -1.471,-2.088 -1.529,-2.045 -1.587,-2.002 -1.643,-1.953 -1.699,-1.908 -1.753,-1.857 -1.806,-1.806 -1.857,-1.753 -1.908,-1.699 -1.953,-1.643 -2.002,-1.587 -2.045,-1.529 -2.088,-1.471 -2.129,-1.41 -2.169,-1.349 -2.207,-1.285 -2.243,-1.222 -2.276,-1.156 -2.309,-1.09 -2.339,-1.024 -2.367,-0.955 -2.395,-0.889 -2.418,-0.818 -2.441,-0.749 -2.461,-0.678 -2.479,-0.607 -2.497,-0.536 -2.51,-0.465 -2.522,-0.391 -2.532,-0.32 -2.54,-0.246 -2.548,-0.173
  region: -0.102,2.55 -0.102,1.849 -0.163,1.844 -0.224,1.839 -0.284,1.831 -0.345,1.821 -0.406,1.808 -0.465,1.793 -0.526,1.778 -0.584,1.758 -0.643,1.737 -0.699,1.717 -0.757,1.692 -0.813,1.666 -0.866,1.638 -0.922,1.608 -0.973,1.577 -1.026,1.544 -1.077,1.509 -1.125,1.473 -1.173,1.435 -1.222,1.394 -1.267,1.354 -1.311,1.311 -1.354,1.265 -1.394,1.219 -1.435,1.173 -1.473,1.125 -1.511,1.074 -1.544,1.024 -1.577,0.973 -1.61,0.919 -1.638,0.866 -1.666,0.81 -1.694,0.754 -1.717,0.699 -1.74,0.64 -1.76,0.582 -1.778,0.523 -1.796,0.465 -1.808,0.404 -1.821,0.343 -1.831,0.282 -1.839,0.221 -1.847,0.16 -1.852,0.099 -2.55,0.099 -2.548,0.173 -2.54,0.246 -2.532,0.318 -2.522,0.391 -2.51,0.462 -2.497,0.536 -2.479,0.607 -2.461,0.678 -2.441,0.747 -2.418,0.818 -2.395,0.886 -2.367,0.955 -2.339,1.021 -2.309,1.09 -2.276,1.156 -2.243,1.219 -2.207,1.283 -2.169,1.346 -2.129,1.407 -2.088,1.468 -2.045,1.527 -2.002,1.585 -1.953,1.643 -1.908,1.697 -1.857,1.753 -1.806,1.803 -1.753,1.854 -1.699,1.905 -1.643,1.953 -1.587,1.999 -1.529,2.045 -1.471,2.088 -1.41,2.129 -1.349,2.167 -1.285,2.205 -1.222,2.24 -1.156,2.276 -1.09,2.306 -1.024,2.337 -0.955,2.367 -0.889,2.393 -0.818,2.418 -0.749,2.438 -0.678,2.459 -0.607,2.479 -0.536,2.494 -0.465,2.51 -0.391,2.522 -0.32,2.532 -0.246,2.54 -0.173,2.545
  region: 2.55,0.099 1.849,0.099 1.844,0.16 1.839,0.221 1.831,0.282 1.819,0.343 1.808,0.404 1.793,0.465 1.775,0.523 1.758,0.582 1.737,0.64 1.717,0.699 1.692,0.754 1.666,0.81 1.638,0.866 1.608,0.919 1.577,0.973 1.544,1.024 1.509,1.074 1.473,1.125 1.435,1.173 1.394,1.219 1.354,1.265 1.311,1.311 1.265,1.354 1.219,1.394 1.173,1.435 1.125,1.473 1.074,1.509 1.024,1.544 0.973,1.577 0.919,1.608 0.866,1.638 0.81,1.666 0.754,1.692 0.699,1.717 0.64,1.737 0.582,1.758 0.523,1.775 0.465,1.793 0.404,1.808 0.343,1.819 0.282,1.831 0.221,1.839 0.16,1.844 0.099,1.849 0.099,2.55 0.173,2.545 0.246,2.54 0.318,2.532 0.391,2.522 0.462,2.51 0.536,2.494 0.607,2.479 0.678,2.459 0.747,2.438 0.818,2.418 0.886,2.393 0.955,2.367 1.021,2.337 1.09,2.306 1.156,2.276 1.219,2.24 1.283,2.205 1.346,2.167 1.407,2.129 1.468,2.088 1.527,2.045 1.585,1.999 1.643,1.953 1.697,1.905 1.753,1.854 1.803,1.803 1.854,1.753 1.905,1.697 1.953,1.643 1.999,1.585 2.045,1.527 2.088,1.468 2.129,1.407 2.167,1.346 2.205,1.283 2.24,1.219 2.276,1.156 2.306,1.09 2.337,1.021 2.367,0.955 2.393,0.886 2.418,0.818 2.438,0.747 2.459,0.678 2.479,0.607 2.494,0.536 2.51,0.462 2.522,0.391 2.532,0.318 2.54,0.246 2.545,0.173
Top Overlay:
  lines w0.152: -2.751,0 -2.741,0.231 -2.71,0.465 -2.662,0.691 -2.593,0.914 -2.507,1.133 -2.403,1.341 -2.278,1.539 -2.141,1.727 -1.986,1.902 -1.819,2.062 -1.636,2.21 -1.443,2.342 -1.24,2.454 -1.026,2.55 -0.805,2.629 -0.579,2.687 -0.351,2.728 -0.117,2.746 0.117,2.746 0.348,2.728 0.579,2.687 0.805,2.629 1.024,2.55 1.237,2.454 1.44,2.342 1.633,2.21 1.816,2.062 1.984,1.902 2.139,1.727 2.278,1.539 2.4,1.341 2.504,1.133 2.593,0.914 2.659,0.691 2.71,0.465 2.738,0.231 2.748,0 2.738,-0.234 2.71,-0.465 2.659,-0.693 2.593,-0.917 2.504,-1.133 2.4,-1.341 2.278,-1.542 2.139,-1.727 1.984,-1.902 1.816,-2.065 1.633,-2.212 1.44,-2.342 1.237,-2.456 1.024,-2.553 0.805,-2.631 0.579,-2.69 0.348,-2.728 0.117,-2.748 -0.117,-2.748 -0.351,-2.728 -0.579,-2.69 -0.805,-2.631 -1.026,-2.553 -1.24,-2.456 -1.443,-2.342 -1.636,-2.212 -1.819,-2.065 -1.986,-1.902 -2.141,-1.727 -2.278,-1.542 -2.403,-1.341 -2.507,-1.133 -2.593,-0.917 -2.662,-0.693 -2.71,-0.465 -2.741,-0.234 -2.751,0
Keep-Out Layer:
  board cut-out: 1.849,0 1.839,-0.193 1.808,-0.386 1.758,-0.572 1.689,-0.754 1.6,-0.925 1.496,-1.087 1.374,-1.24 1.237,-1.377 1.087,-1.499 0.925,-1.603 0.752,-1.692 0.572,-1.76 0.384,-1.811 0.193,-1.841 0,-1.852 -0.193,-1.841 -0.386,-1.811 -0.572,-1.76 -0.754,-1.692 -0.925,-1.603 -1.087,-1.499 -1.24,-1.377 -1.377,-1.24 -1.499,-1.087 -1.603,-0.925 -1.692,-0.754 -1.76,-0.572 -1.811,-0.386 -1.841,-0.193 -1.852,0 -1.841,0.193 -1.811,0.384 -1.76,0.572 -1.692,0.752 -1.603,0.925 -1.499,1.087 -1.377,1.237 -1.24,1.374 -1.087,1.496 -0.925,1.6 -0.754,1.689 -0.572,1.758 -0.386,1.808 -0.193,1.839 0,1.849 0.193,1.839 0.384,1.808 0.572,1.758 0.752,1.689 0.925,1.6 1.087,1.496 1.237,1.374 1.374,1.237 1.496,1.087 1.6,0.925 1.689,0.752 1.758,0.572 1.808,0.384 1.839,0.193
Mechanical 7:
  lines w0.051: -2.548,-0.124 -2.525,-0.368 -2.476,-0.612 -2.405,-0.848 -2.314,-1.074 -2.2,-1.293 -2.065,-1.499 -1.91,-1.692 -1.737,-1.867 -1.549,-2.027 -1.346,-2.167 -1.13,-2.286 -0.904,-2.385 -0.671,-2.461 -0.429,-2.515 -0.185,-2.545 0.061,-2.55 0.307,-2.532 0.549,-2.492 0.787,-2.426 1.019,-2.339 1.24,-2.23 1.448,-2.101 1.643,-1.951 1.824,-1.783 1.986,-1.598 2.131,-1.397 2.258,-1.186 2.362,-0.963 2.443,-0.729 2.502,-0.49 2.537,-0.246 2.55,0 2.537,0.246 2.502,0.49 2.443,0.729 2.362,0.96 2.258,1.184 2.131,1.397 1.986,1.595 1.824,1.781 1.643,1.948 1.448,2.098 1.24,2.228 1.019,2.337 0.787,2.423 0.549,2.489 0.307,2.53 0.061,2.548 -0.185,2.543 -0.429,2.512 -0.671,2.459 -0.904,2.383 -1.13,2.286 -1.346,2.164 -1.549,2.024 -1.737,1.867 -1.91,1.689 -2.065,1.499 -2.2,1.293 -2.314,1.074 -2.405,0.846 -2.476,0.61 -2.525,0.368 -2.548,0.122 -2.548,-0.124
3D body "9774025151R.stp": height 2.5, standoff -1.4, extent -2.55,-2.55 2.55,2.55